# Altium footprint library Cylinder with Flat Index.PcbLib: 17 footprints (part 1 of 2)
Each footprint in its own frame and in the unit in brackets; x right, y up, seen from the top. Pads: shape width x height; smd on the part's side, far side on the other; paste and mask are expansions set on the pad; w line width, h text height; cw(c..) or ccw(c..) is an arc to the next point about the centre after c.
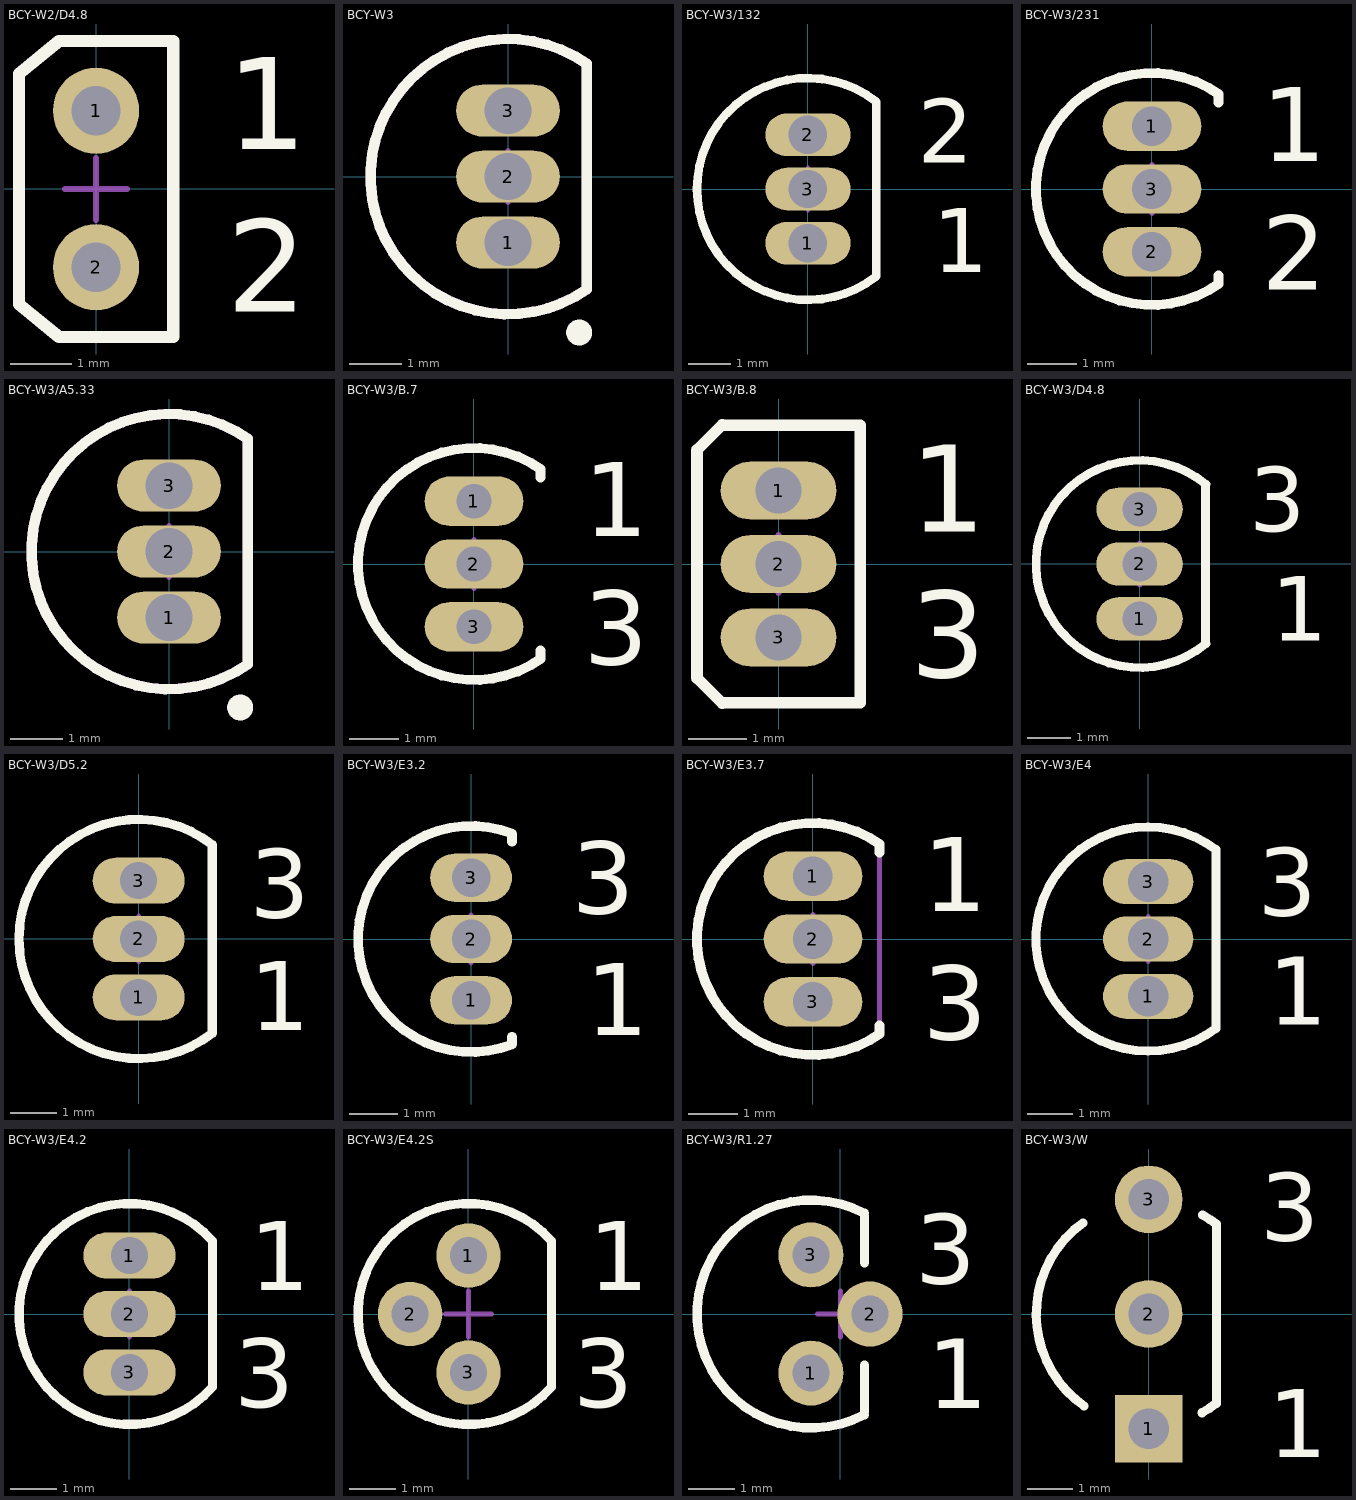
[diagram p0: the footprints below, top view; thin cyan lines are the x and y axes]

## BCY-W2/D4.8 [mm] "TO, Flat Index; 2 In-Line, Axial Leads; Body Dia. 4.6mm; Lead Dia. 0.5 mm (max)"
height 4.01
pads (2):
  round 1.4 hole 0.8: 1(0,1.27) 2(0,-1.27)
Top Overlay:
  lines w0.2: -1.25,-1.87 -0.6,-2.4 1.25,-2.4 1.25,2.4 -0.6,2.4 -1.25,1.87 -1.25,-1.87
  text "2" at 2.117,-1.988 h1.5
  text "1" at 2.117,0.647 h1.5
Mechanical 15:
  lines w0.1: -0.5,0 0.5,0 ; 0,-0.5 0,0.5

## BCY-W3 [mm] "TO, Flat Index; 3 In-Line, Axial Leads; Body Dia. 4.8mm; Leads 0.61 x 0.61 mm (max)"
height 7.87
pads (3):
  oval 2x1 hole 0.9: 1(0,-1.27) 2(0,0) 3(0,1.27)
Top Overlay:
  circle w0.25: c1.371,-3.003 r0.125
  lines w0.2: 1.52,-2.171 cw(c0,0) 1.52,2.171 1.52,-2.171
Mechanical 13:
  lines w0.2: 1.52,-2.171 cw(c0,0) 1.52,2.171 1.52,-2.171
Mechanical 15:
  lines w0.1: -0.5,0 0.5,0 ; 0,-0.5 0,0.5
3D body: height 7.87, standoff 0, extent -2.659,-2.659 1.523,2.659

## BCY-W3/132 [mm] "TO, Flat Index; 3 In-Line, Axial Leads; Body Dia. 4.8mm; Leads 0.51 x 0.51 mm (max)"
height 5.33
pads (3):
  oval 2x1 hole 0.9: 1(0,-1.27) 2(0,1.27) 3(0,0)
Top Overlay:
  lines w0.2: 1.601,-2.049 cw(c0,0) 1.601,2.049 ; 1.6,-1.99 1.6,1.99
  text "1" at 2.93,-1.95 h1.5
  text "2" at 2.57,0.61 h1.5
Mechanical 15:
  lines w0.1: -0.5,0 0.5,0 ; 0,-0.5 0,0.5

## BCY-W3/231 [mm] "TO, Flat Index; 3 In-Line, Axial Leads; Body Dia. 4.6mm; Leads 0.53 x 0.39 mm (max)"
pads (3):
  oval 2x1 hole 0.8: 1(0,1.27) 2(0,-1.27) 3(0,0)
Top Overlay:
  lines w0.2: 1.35,-1.75 1.35,-1.92 cw(c0,0) 1.35,1.92 1.35,1.75
  text "1" at 2.224,0.56 h1.5
  text "2" at 2.224,-2.035 h1.5
Mechanical 15:
  lines w0.1: -0.5,0 0.5,0 ; 0,-0.5 0,0.5

## BCY-W3/A5.33 [mm] "TO, Flat Index; 3 In-Line, Axial Leads; Body Dia. 4.8mm; Leads 0.56 x 0.53 mm (max)"
height 5.33
pads (3):
  oval 2x1 hole 0.9: 1(0,-1.27) 2(0,0) 3(0,1.27)
Top Overlay:
  circle w0.25: c1.371,-3.003 r0.125
  lines w0.2: 1.52,-2.171 cw(c0,0) 1.52,2.171 1.52,-2.171
Mechanical 13:
  lines w0.2: 1.52,-2.171 cw(c0,0) 1.52,2.171 1.52,-2.171
Mechanical 15:
  lines w0.1: -0.5,0 0.5,0 ; 0,-0.5 0,0.5
3D body: height 5.33, standoff 0, extent -2.659,-2.659 1.523,2.659

## BCY-W3/B.7 [mm] "TO, Flat Index; 3 In-Line, Axial Leads; Body Dia. 4.6mm; Leads 0.41 x 0.39 mm (max)"
height 4.7
pads (3):
  oval 2x1 hole 0.7: 1(0,1.27) 2(0,0) 3(0,-1.27)
Top Overlay:
  lines w0.2: 1.35,-1.75 1.35,-1.92 cw(c0,0) 1.35,1.92 1.35,1.75
  text "3" at 2.224,-2.035 h1.5
  text "1" at 2.224,0.56 h1.5
Mechanical 15:
  lines w0.1: -0.5,0 0.5,0 ; 0,-0.5 0,0.5

## BCY-W3/B.8 [mm] "TO, Flat Index; 3 In-Line, Axial Leads; Body Dia. 4.6mm; Lead Dia. 0.5 mm (max)"
height 4.01
pads (3):
  oval 2x1 hole 0.8: 1(0,1.27) 2(0,0) 3(0,-1.27)
Top Overlay:
  lines w0.2: -0.97,-2.41 -1.41,-1.97 -1.41,1.97 -0.97,2.41 ; -0.97,-2.4 1.41,-2.4 1.41,2.4 -0.97,2.4
  text "3" at 2.275,-1.963 h1.5
  text "1" at 2.275,0.555 h1.5
Mechanical 15:
  lines w0.1: -0.5,0 0.5,0 ; 0,-0.5 0,0.5

## BCY-W3/D4.8 [mm] "TO, Flat Index; 3 In-Line, Axial Leads; Body Dia. 4.6mm; Leads 0.48 x 0.41 mm (max)"
height 7.62
pads (3):
  oval 2x1 hole 0.8: 1(0,-1.27) 2(0,0) 3(0,1.27)
Top Overlay:
  lines w0.2: 1.526,-1.801 1.526,1.799 ; 1.536,-1.844 cw(c0,0) 1.536,1.844
  text "1" at 3.048,-1.778 h1.5
  text "3" at 2.54,0.762 h1.5
Mechanical 15:
  lines w0.1: -0.5,0 0.5,0 ; 0,-0.5 0,0.5

## BCY-W3/D5.2 [mm] "TO, Flat Index; 3 In-Line, Axial Leads; Body Dia. 5.1mm; Leads 0.48 x 0.48 mm (max)"
height 5.33
pads (3):
  oval 2x1 hole 0.8: 1(0,-1.27) 2(0,0) 3(0,1.27)
Top Overlay:
  lines w0.2: 1.601,-2.049 cw(c0,0) 1.601,2.049 1.6,-2.049
  text "1" at 2.421,-1.979 h1.5
  text "3" at 2.421,0.467 h1.5
Mechanical 13:
  lines w0.1: 1.601,-2.049 cw(c0,0) 1.601,2.049 1.6,-2.049
Mechanical 15:
  lines w0.1: -0.5,0 0.5,0 ; 0,-0.5 0,0.5

## BCY-W3/E3.2 [mm] "TO, Flat Index; 3 In-Line, Axial Leads; Body Dia. 4.6mm; Leads 0.56 x 0.51 mm (max)"
height 8.97
pads (3):
  oval 1.7x1 hole 0.8: 1(0,-1.27) 2(0,0) 3(0,1.27)
Top Overlay:
  lines w0.2: 0.85,-2.18 0.85,-2.03 ; 0.85,2.02 0.85,2.18 ; 0.853,-2.187 cw(c0,0) 0.853,2.187
  text "3" at 2.09,0.52 h1.5
  text "1" at 2.38,-2 h1.5
Mechanical 15:
  lines w0.1: -0.5,0 0.5,0 ; 0,-0.5 0,0.5

## BCY-W3/E3.7 [mm] "TO, Flat Index; 3 In-Line, Axial Leads; Body Dia. 4.6mm; Leads 0.56 x 0.39 mm (max)"
height 4.7
pads (3):
  oval 2x1 hole 0.8: 1(0,1.27) 2(0,0) 3(0,-1.27)
Top Overlay:
  lines w0.2: 1.35,-1.75 1.35,-1.92 cw(c0,0) 1.35,1.92 1.35,1.75
  text "3" at 2.224,-2.035 h1.5
  text "1" at 2.224,0.56 h1.5
Mechanical 13:
  lines w0.1: 1.35,-1.92 cw(c0,0) 1.35,1.92 1.35,-1.92
Mechanical 15:
  lines w0.1: -0.5,0 0.5,0 ; 0,-0.5 0,0.5

## BCY-W3/E4 [mm] "TO, Flat Index; 3 In-Line, Axial Leads; Body Dia. 4.7mm; Leads 0.56 x 0.51 mm (max)"
height 4.96
pads (3):
  oval 2x1 hole 0.9: 1(0,-1.27) 2(0,0) 3(0,1.27)
Top Overlay:
  lines w0.2: 1.5,-1.98 cw(c0,0) 1.5,1.98 1.5,-1.98
  text "1" at 2.66,-1.9 h1.5
  text "3" at 2.43,0.51 h1.5
Mechanical 15:
  lines w0.1: -0.5,0 0.5,0 ; 0,-0.5 0,0.5

## BCY-W3/E4.2 [mm] "TO, Flat Index; 3 In-Line, Axial Leads; Body Dia. 4.6mm; Leads 0.48 x 0.45 mm (max)"
height 5.2
pads (3):
  oval 2x1 hole 0.8: 1(0,1.27) 2(0,0) 3(0,-1.27)
Top Overlay:
  lines w0.2: 1.8,-1.587 1.8,1.587 ; 1.8,-1.587 cw(c0,0) 1.8,1.587
  text "3" at 2.275,-2.02 h1.5
  text "1" at 2.616,0.52 h1.5
Mechanical 15:
  lines w0.1: -0.5,0 0.5,0 ; 0,-0.5 0,0.5

## BCY-W3/E4.2S [mm] "TO, Flat Index; 3 Axial Leads; Pin Circle Dia. 2.54 mm; Body Dia. 4.6mm; Lead Dia. 0.48 mm (max)"
height 7.7
pads (3):
  round 1.4 hole 0.8: 1(0,1.27) 2(-1.27,0) 3(0,-1.27)
Top Overlay:
  lines w0.2: 1.8,-1.587 1.8,1.587 ; 1.8,-1.587 cw(c0,0) 1.8,1.587
  text "1" at 2.616,0.52 h1.5
  text "3" at 2.275,-2.02 h1.5
Mechanical 15:
  lines w0.1: -0.5,0 0.5,0 ; 0,-0.5 0,0.5

## BCY-W3/R1.27 [mm] "TO, Flat Index; 3 Axial Leads; Pin Circle Dia. 2.54 mm; Body Dia. 4.6mm; Lead Dia. 0.48 mm (max)"
height 6.74
pads (3):
  round 1.4 hole 0.8: 1(-0.635,-1.27) 2(0.635,0) 3(-0.635,1.27)
Top Overlay:
  lines w0.2: 0.515,-2.163 cw(c-0.635,0) 0.515,2.163 ; 0.515,-2.1 0.515,-1.1 ; 0.515,1.1 0.515,2.1
  text "3" at 1.605,0.65 h1.5
  text "1" at 1.865,-2.03 h1.5
Mechanical 15:
  lines w0.1: -0.5,0 0.5,0 ; 0,-0.5 0,0.5

## BCY-W3/W [mm] "TO, Flat Index; 3 In-Line, Axial Leads (Wide Pitch); Body Dia. 4.7mm; Leads 0.56 x 0.51 mm (max)"
height 7.96
pads (3):
  rect 1.5x1.5 hole 0.9: 1(0,-2.54)
  round 1.5 hole 0.9: 2(0,0) 3(0,2.54)
Top Overlay:
  lines w0.2: -1.457,2.019 ccw(c0,0) -1.429,-2.039 ; 1.177,-2.188 ccw(c0,0) 1.5,-1.98 1.5,1.98 ; 1.189,2.194 cw(c0,0) 1.507,1.989
  text "1" at 2.65,-3.17 h1.5
  text "3" at 2.47,1.62 h1.5
Mechanical 15:
  lines w0.1: -0.5,0 0.5,0 ; 0,-0.5 0,0.5